# Altium integrated library con-molex.IntLib: 368 symbols (part 2 of 6)

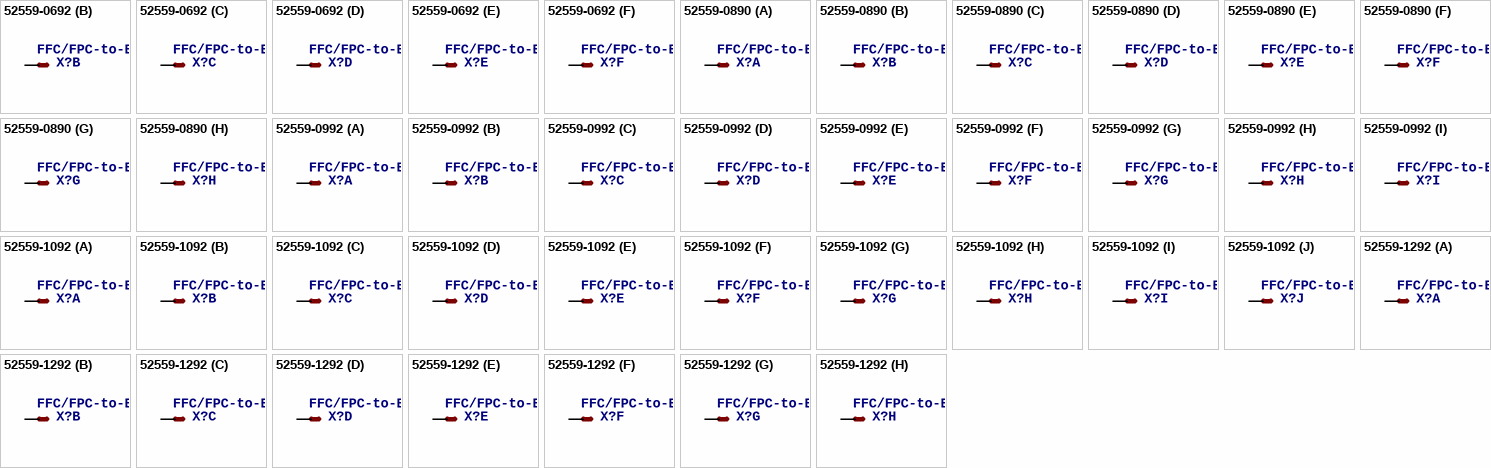
[diagram p23: symbols 52559-0692 to 52559-1292]

## 52559-0692
designator X?, comment FFC/FPC-to-Board  0.50mm (.020") SMT, Vertical, ZIF Receptacle   Source: http://www.molex.com/product/ffc/52559.html
MPN: 52559-0692; OC_FARNELL: unknown; OC_NEWARK: 92M6167
footprint 52559-0692
part A pins: 1 S
part B pins: 2 S
part C pins: 3 S
part D pins: 4 S
part E pins: 5 S
part F pins: 6 S

## 52559-0890
designator X?, comment FFC/FPC-to-Board  0.50mm (.020") SMT, Vertical, ZIF Receptacle   Source: http://www.molex.com/product/ffc/52559.html
OC_FARNELL: unknown; OC_NEWARK: unknown
footprint 52559-0890
part A pins: 1 S
part B pins: 2 S
part C pins: 3 S
part D pins: 4 S
part E pins: 5 S
part F pins: 6 S
part G pins: 7 S
part H pins: 8 S

## 52559-0992
designator X?, comment FFC/FPC-to-Board  0.50mm (.020") SMT, Vertical, ZIF Receptacle   Source: http://www.molex.com/product/ffc/52559.html
OC_FARNELL: unknown; OC_NEWARK: unknown
footprint 52559-0992
part A pins: 1 S
part B pins: 2 S
part C pins: 3 S
part D pins: 4 S
part E pins: 5 S
part F pins: 6 S
part G pins: 7 S
part H pins: 8 S
part I pins: 9 S

## 52559-1092
designator X?, comment FFC/FPC-to-Board  0.50mm (.020") SMT, Vertical, ZIF Receptacle   Source: http://www.molex.com/product/ffc/52559.html
MPN: 52559-1092; OC_FARNELL: unknown; OC_NEWARK: 92M6172
footprint 52559-1092
part A pins: 1 S
part B pins: 2 S
part C pins: 3 S
part D pins: 4 S
part E pins: 5 S
part F pins: 6 S
part G pins: 7 S
part H pins: 8 S
part I pins: 9 S
part J pins: 10 S

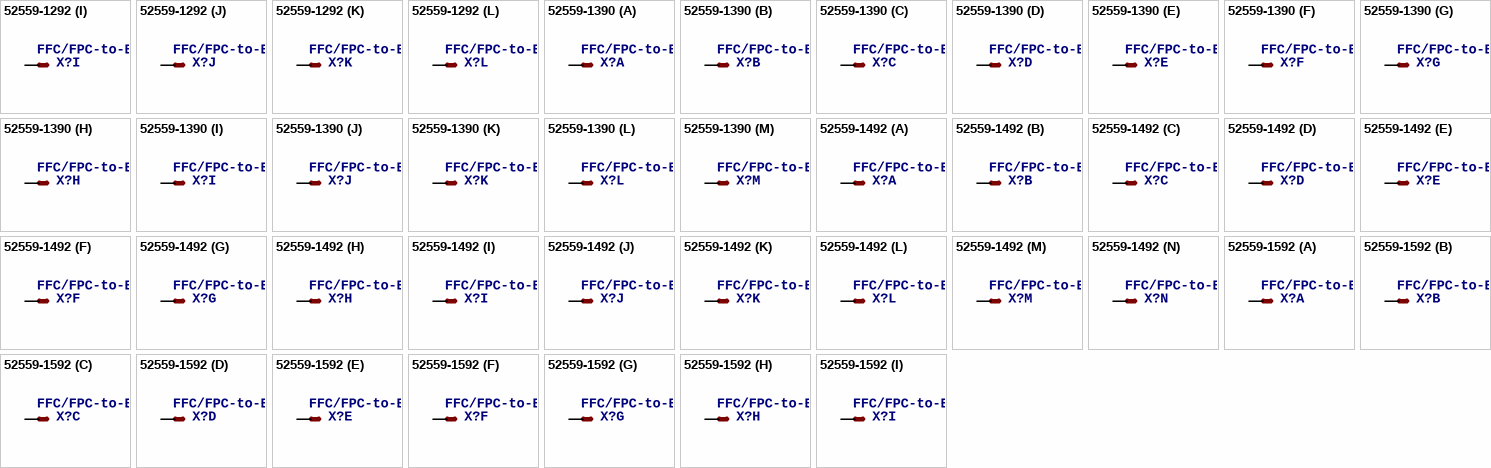
[diagram p24: symbols 52559-1292 to 52559-1592]

## 52559-1292
designator X?, comment FFC/FPC-to-Board  0.50mm (.020") SMT, Vertical, ZIF Receptacle   Source: http://www.molex.com/product/ffc/52559.html
MPN: 52559-1292; OC_FARNELL: unknown; OC_NEWARK: 91C4526
footprint 52559-1292
part A pins: 1 S
part B pins: 2 S
part C pins: 3 S
part D pins: 4 S
part E pins: 5 S
part F pins: 6 S
part G pins: 7 S
part H pins: 8 S
part I pins: 9 S
part J pins: 10 S
part K pins: 11 S
part L pins: 12 S

## 52559-1390
designator X?, comment FFC/FPC-to-Board  0.50mm (.020") SMT, Vertical, ZIF Receptacle   Source: http://www.molex.com/product/ffc/52559.html
MPN: 52559-1390; OC_FARNELL: unknown; OC_NEWARK: 92M6176
footprint 52559-1390
part A pins: 1 S
part B pins: 2 S
part C pins: 3 S
part D pins: 4 S
part E pins: 5 S
part F pins: 6 S
part G pins: 7 S
part H pins: 8 S
part I pins: 9 S
part J pins: 10 S
part K pins: 11 S
part L pins: 12 S
part M pins: 13 S

## 52559-1492
designator X?, comment FFC/FPC-to-Board  0.50mm (.020") SMT, Vertical, ZIF Receptacle   Source: http://www.molex.com/product/ffc/52559.html
MPN: 52559-1492; OC_FARNELL: unknown; OC_NEWARK: 92M6180
footprint 52559-1492
part A pins: 1 S
part B pins: 2 S
part C pins: 3 S
part D pins: 4 S
part E pins: 5 S
part F pins: 6 S
part G pins: 7 S
part H pins: 8 S
part I pins: 9 S
part J pins: 10 S
part K pins: 11 S
part L pins: 12 S
part M pins: 13 S
part N pins: 14 S

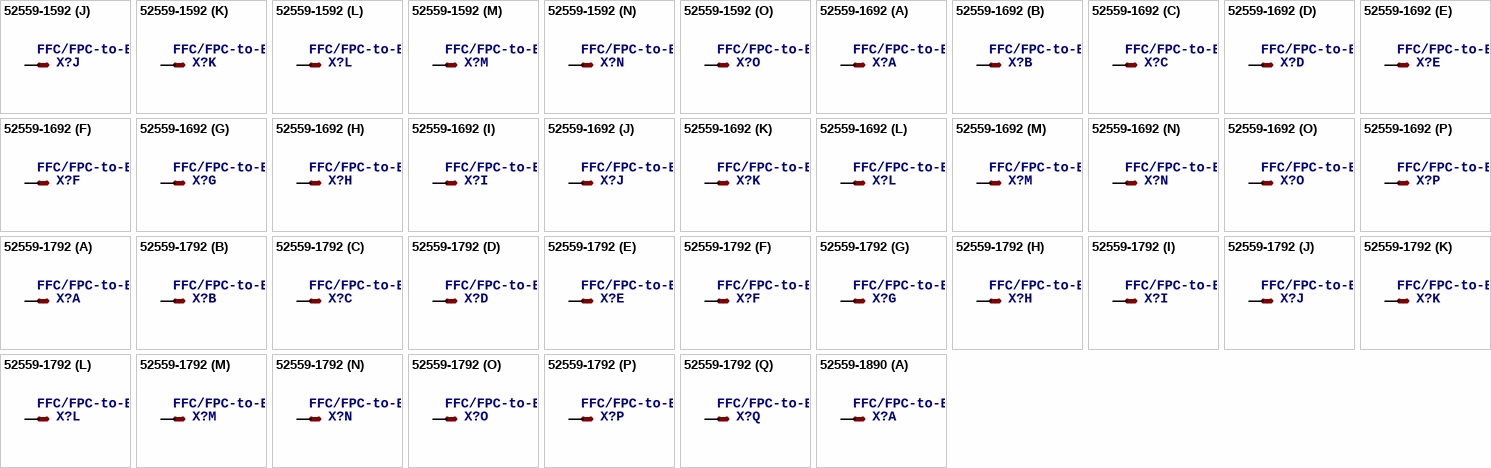
[diagram p25: symbols 52559-1592 to 52559-1890]

## 52559-1592
designator X?, comment FFC/FPC-to-Board  0.50mm (.020") SMT, Vertical, ZIF Receptacle   Source: http://www.molex.com/product/ffc/52559.html
OC_FARNELL: unknown; OC_NEWARK: unknown
footprint 52559-1592
part A pins: 1 S
part B pins: 2 S
part C pins: 3 S
part D pins: 4 S
part E pins: 5 S
part F pins: 6 S
part G pins: 7 S
part H pins: 8 S
part I pins: 9 S
part J pins: 10 S
part K pins: 11 S
part L pins: 12 S
part M pins: 13 S
part N pins: 14 S
part O pins: 15 S

## 52559-1692
designator X?, comment FFC/FPC-to-Board  0.50mm (.020") SMT, Vertical, ZIF Receptacle   Source: http://www.molex.com/product/ffc/52559.html
OC_FARNELL: unknown; OC_NEWARK: unknown
footprint 52559-1692
part A pins: 1 S
part B pins: 2 S
part C pins: 3 S
part D pins: 4 S
part E pins: 5 S
part F pins: 6 S
part G pins: 7 S
part H pins: 8 S
part I pins: 9 S
part J pins: 10 S
part K pins: 11 S
part L pins: 12 S
part M pins: 13 S
part N pins: 14 S
part O pins: 15 S
part P pins: 16 S

## 52559-1792
designator X?, comment FFC/FPC-to-Board  0.50mm (.020") SMT, Vertical, ZIF Receptacle   Source: http://www.molex.com/product/ffc/52559.html
OC_FARNELL: unknown; OC_NEWARK: unknown
footprint 52559-1792
part A pins: 1 S
part B pins: 2 S
part C pins: 3 S
part D pins: 4 S
part E pins: 5 S
part F pins: 6 S
part G pins: 7 S
part H pins: 8 S
part I pins: 9 S
part J pins: 10 S
part K pins: 11 S
part L pins: 12 S
part M pins: 13 S
part N pins: 14 S
part O pins: 15 S
part P pins: 16 S
part Q pins: 17 S

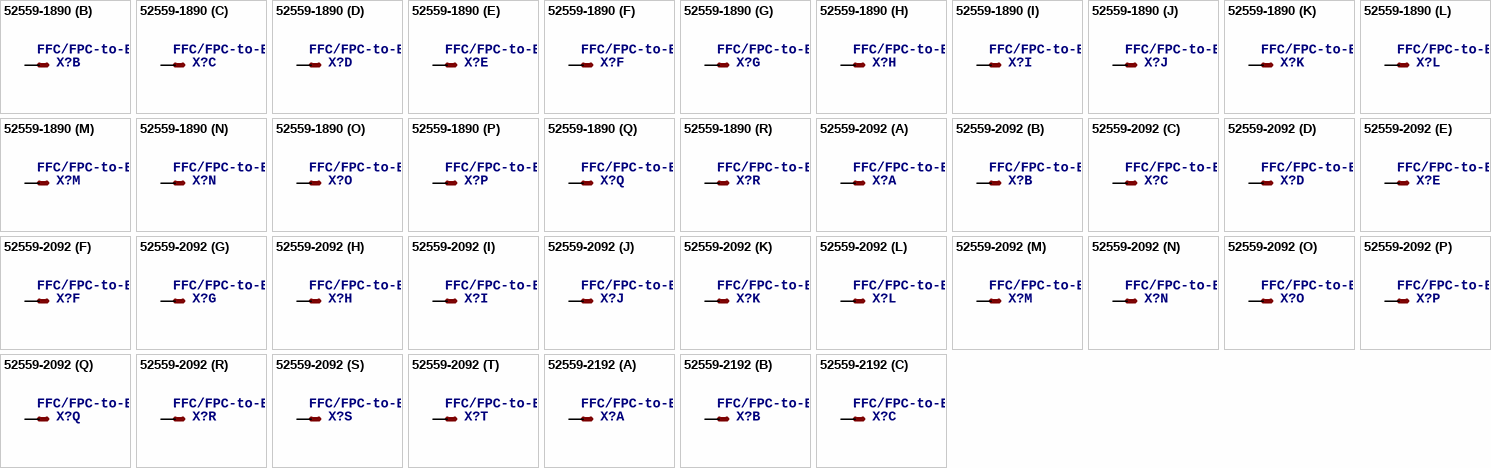
[diagram p26: symbols 52559-1890 to 52559-2192]

## 52559-1890
designator X?, comment FFC/FPC-to-Board  0.50mm (.020") SMT, Vertical, ZIF Receptacle   Source: http://www.molex.com/product/ffc/52559.html
MPN: 52559-1890; OC_FARNELL: unknown; OC_NEWARK: 92M6187
footprint 52559-1890
part A pins: 1 S
part B pins: 2 S
part C pins: 3 S
part D pins: 4 S
part E pins: 5 S
part F pins: 6 S
part G pins: 7 S
part H pins: 8 S
part I pins: 9 S
part J pins: 10 S
part K pins: 11 S
part L pins: 12 S
part M pins: 13 S
part N pins: 14 S
part O pins: 15 S
part P pins: 16 S
part Q pins: 17 S
part R pins: 18 S

## 52559-2092
designator X?, comment FFC/FPC-to-Board  0.50mm (.020") SMT, Vertical, ZIF Receptacle   Source: http://www.molex.com/product/ffc/52559.html
OC_FARNELL: unknown; OC_NEWARK: unknown
footprint 52559-2092
part A pins: 1 S
part B pins: 2 S
part C pins: 3 S
part D pins: 4 S
part E pins: 5 S
part F pins: 6 S
part G pins: 7 S
part H pins: 8 S
part I pins: 9 S
part J pins: 10 S
part K pins: 11 S
part L pins: 12 S
part M pins: 13 S
part N pins: 14 S
part O pins: 15 S
part P pins: 16 S
part Q pins: 17 S
part R pins: 18 S
part S pins: 19 S
part T pins: 20 S

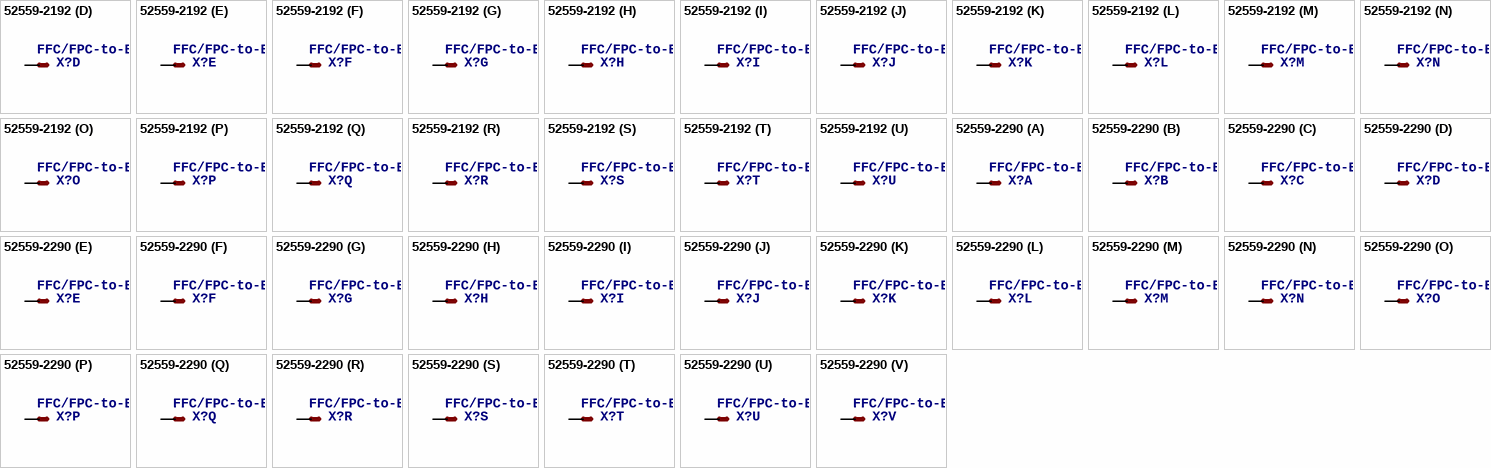
[diagram p27: symbols 52559-2192 to 52559-2290]

## 52559-2192
designator X?, comment FFC/FPC-to-Board  0.50mm (.020") SMT, Vertical, ZIF Receptacle   Source: http://www.molex.com/product/ffc/52559.html
OC_FARNELL: unknown; OC_NEWARK: unknown
footprint 52559-2192
part A pins: 1 S
part B pins: 2 S
part C pins: 3 S
part D pins: 4 S
part E pins: 5 S
part F pins: 6 S
part G pins: 7 S
part H pins: 8 S
part I pins: 9 S
part J pins: 10 S
part K pins: 11 S
part L pins: 12 S
part M pins: 13 S
part N pins: 14 S
part O pins: 15 S
part P pins: 16 S
part Q pins: 17 S
part R pins: 18 S
part S pins: 19 S
part T pins: 20 S
part U pins: 21 S

## 52559-2290
designator X?, comment FFC/FPC-to-Board  0.50mm (.020") SMT, Vertical, ZIF Receptacle   Source: http://www.molex.com/product/ffc/52559.html
MPN: 52559-2290; OC_FARNELL: unknown; OC_NEWARK: 92M6193
footprint 52559-2290
part A pins: 1 S
part B pins: 2 S
part C pins: 3 S
part D pins: 4 S
part E pins: 5 S
part F pins: 6 S
part G pins: 7 S
part H pins: 8 S
part I pins: 9 S
part J pins: 10 S
part K pins: 11 S
part L pins: 12 S
part M pins: 13 S
part N pins: 14 S
part O pins: 15 S
part P pins: 16 S
part Q pins: 17 S
part R pins: 18 S
part S pins: 19 S
part T pins: 20 S
part U pins: 21 S
part V pins: 22 S

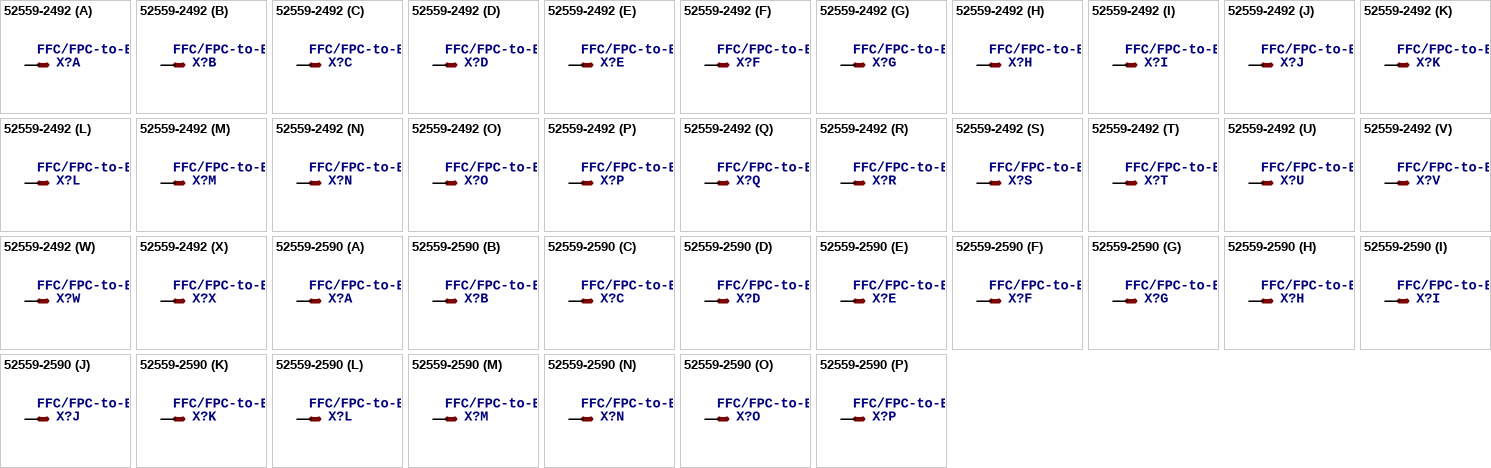
[diagram p28: symbols 52559-2492 to 52559-2590]

## 52559-2492
designator X?, comment FFC/FPC-to-Board  0.50mm (.020") SMT, Vertical, ZIF Receptacle   Source: http://www.molex.com/product/ffc/52559.html
MPN: 52559-2492; OC_FARNELL: unknown; OC_NEWARK: 25M4409
footprint 52559-2492
part A pins: 1 S
part B pins: 2 S
part C pins: 3 S
part D pins: 4 S
part E pins: 5 S
part F pins: 6 S
part G pins: 7 S
part H pins: 8 S
part I pins: 9 S
part J pins: 10 S
part K pins: 11 S
part L pins: 12 S
part M pins: 13 S
part N pins: 14 S
part O pins: 15 S
part P pins: 16 S
part Q pins: 17 S
part R pins: 18 S
part S pins: 19 S
part T pins: 20 S
part U pins: 21 S
part V pins: 22 S
part W pins: 23 S
part X pins: 24 S

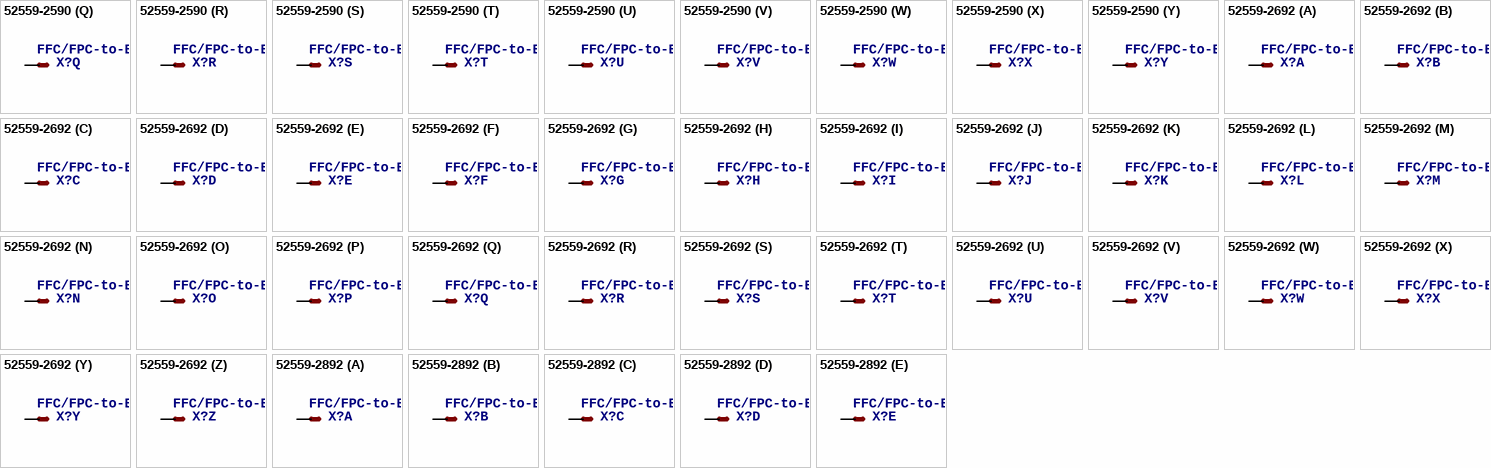
[diagram p29: symbols 52559-2590 to 52559-2892]

## 52559-2590
designator X?, comment FFC/FPC-to-Board  0.50mm (.020") SMT, Vertical, ZIF Receptacle   Source: http://www.molex.com/product/ffc/52559.html
OC_FARNELL: unknown; OC_NEWARK: unknown
footprint 52559-2590
part A pins: 1 S
part B pins: 2 S
part C pins: 3 S
part D pins: 4 S
part E pins: 5 S
part F pins: 6 S
part G pins: 7 S
part H pins: 8 S
part I pins: 9 S
part J pins: 10 S
part K pins: 11 S
part L pins: 12 S
part M pins: 13 S
part N pins: 14 S
part O pins: 15 S
part P pins: 16 S
part Q pins: 17 S
part R pins: 18 S
part S pins: 19 S
part T pins: 20 S
part U pins: 21 S
part V pins: 22 S
part W pins: 23 S
part X pins: 24 S
part Y pins: 25 S

## 52559-2692
designator X?, comment FFC/FPC-to-Board  0.50mm (.020") SMT, Vertical, ZIF Receptacle   Source: http://www.molex.com/product/ffc/52559.html
OC_FARNELL: unknown; OC_NEWARK: unknown
footprint 52559-2692
part A pins: 1 S
part B pins: 2 S
part C pins: 3 S
part D pins: 4 S
part E pins: 5 S
part F pins: 6 S
part G pins: 7 S
part H pins: 8 S
part I pins: 9 S
part J pins: 10 S
part K pins: 11 S
part L pins: 12 S
part M pins: 13 S
part N pins: 14 S
part O pins: 15 S
part P pins: 16 S
part Q pins: 17 S
part R pins: 18 S
part S pins: 19 S
part T pins: 20 S
part U pins: 21 S
part V pins: 22 S
part W pins: 23 S
part X pins: 24 S
part Y pins: 25 S
part Z pins: 26 S

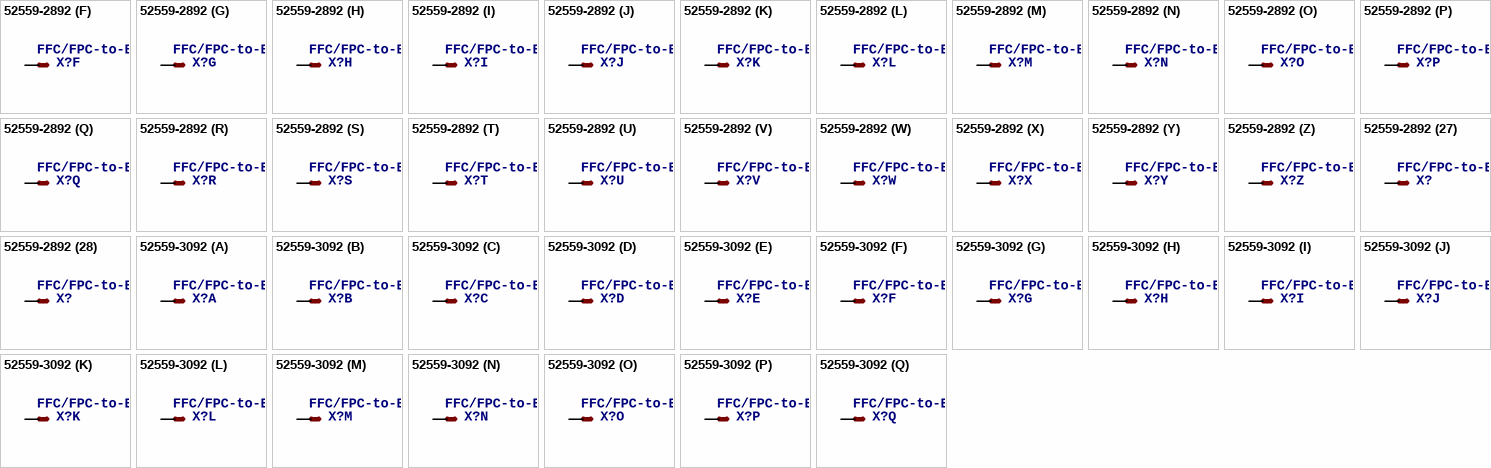
[diagram p30: symbols 52559-2892 to 52559-3092]

## 52559-2892
designator X?, comment FFC/FPC-to-Board  0.50mm (.020") SMT, Vertical, ZIF Receptacle   Source: http://www.molex.com/product/ffc/52559.html
OC_FARNELL: unknown; OC_NEWARK: unknown
footprint 52559-2892
part A pins: 1 S
part B pins: 2 S
part C pins: 3 S
part D pins: 4 S
part E pins: 5 S
part F pins: 6 S
part G pins: 7 S
part H pins: 8 S
part I pins: 9 S
part J pins: 10 S
part K pins: 11 S
part L pins: 12 S
part M pins: 13 S
part N pins: 14 S
part O pins: 15 S
part P pins: 16 S
part Q pins: 17 S
part R pins: 18 S
part S pins: 19 S
part T pins: 20 S
part U pins: 21 S
part V pins: 22 S
part W pins: 23 S
part X pins: 24 S
part Y pins: 25 S
part Z pins: 26 S
part 27 pins: 27 S
part 28 pins: 28 S

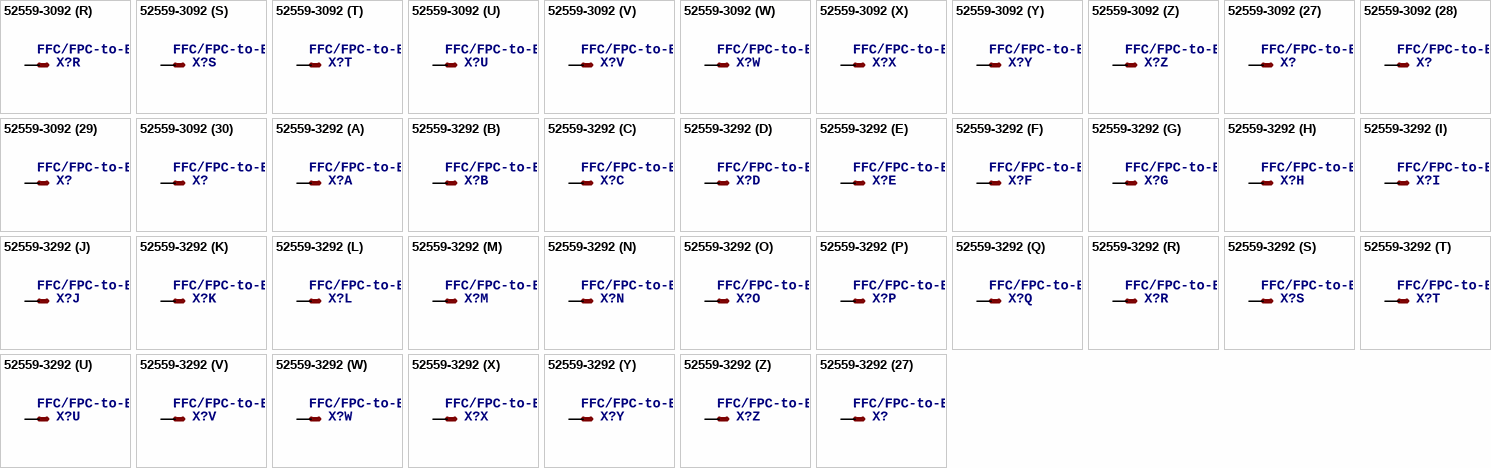
[diagram p31: symbols 52559-3092 to 52559-3292]

## 52559-3092
designator X?, comment FFC/FPC-to-Board  0.50mm (.020") SMT, Vertical, ZIF Receptacle   Source: http://www.molex.com/product/ffc/52559.html
MPN: 52559-3072; MF: MOLEX; OC_FARNELL: unknown; OC_NEWARK: 57J3632
footprint 52559-3092
part A pins: 1 S
part B pins: 2 S
part C pins: 3 S
part D pins: 4 S
part E pins: 5 S
part F pins: 6 S
part G pins: 7 S
part H pins: 8 S
part I pins: 9 S
part J pins: 10 S
part K pins: 11 S
part L pins: 12 S
part M pins: 13 S
part N pins: 14 S
part O pins: 15 S
part P pins: 16 S
part Q pins: 17 S
part R pins: 18 S
part S pins: 19 S
part T pins: 20 S
part U pins: 21 S
part V pins: 22 S
part W pins: 23 S
part X pins: 24 S
part Y pins: 25 S
part Z pins: 26 S
part 27 pins: 27 S
part 28 pins: 28 S
part 29 pins: 29 S
part 30 pins: 30 S

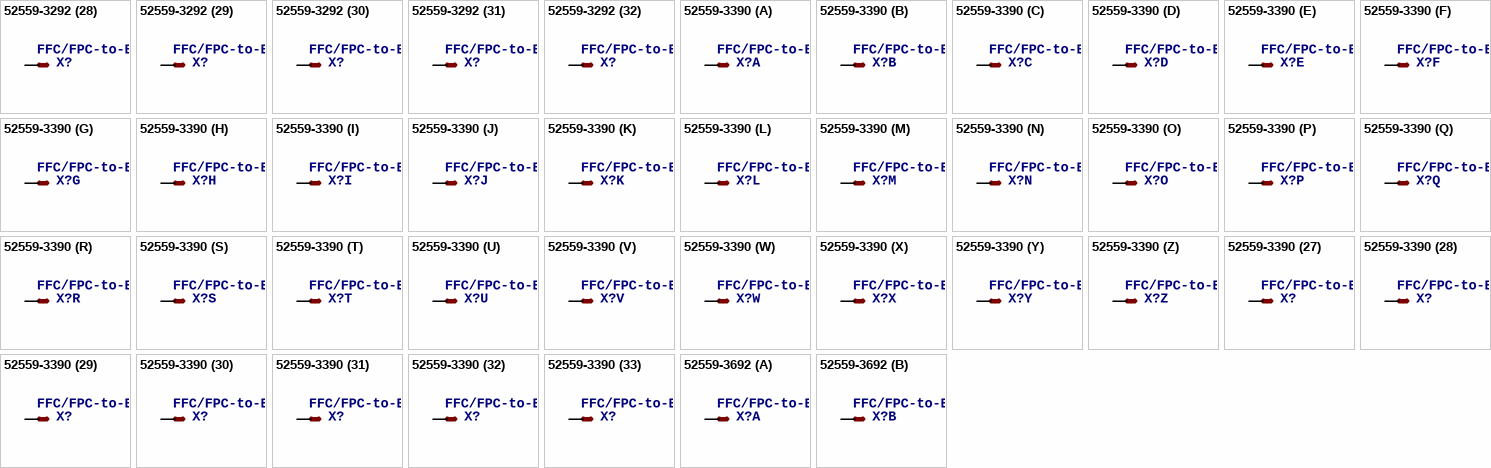
[diagram p32: symbols 52559-3292 to 52559-3692]

## 52559-3292
designator X?, comment FFC/FPC-to-Board  0.50mm (.020") SMT, Vertical, ZIF Receptacle   Source: http://www.molex.com/product/ffc/52559.html
OC_FARNELL: unknown; OC_NEWARK: unknown
footprint 52559-3292
part A pins: 1 S
part B pins: 2 S
part C pins: 3 S
part D pins: 4 S
part E pins: 5 S
part F pins: 6 S
part G pins: 7 S
part H pins: 8 S
part I pins: 9 S
part J pins: 10 S
part K pins: 11 S
part L pins: 12 S
part M pins: 13 S
part N pins: 14 S
part O pins: 15 S
part P pins: 16 S
part Q pins: 17 S
part R pins: 18 S
part S pins: 19 S
part T pins: 20 S
part U pins: 21 S
part V pins: 22 S
part W pins: 23 S
part X pins: 24 S
part Y pins: 25 S
part Z pins: 26 S
part 27 pins: 27 S
part 28 pins: 28 S
part 29 pins: 29 S
part 30 pins: 30 S
part 31 pins: 31 S
part 32 pins: 32 S

## 52559-3390
designator X?, comment FFC/FPC-to-Board  0.50mm (.020") SMT, Vertical, ZIF Receptacle   Source: http://www.molex.com/product/ffc/52559.html
OC_FARNELL: unknown; OC_NEWARK: unknown
footprint 52559-3390
part A pins: 1 S
part B pins: 2 S
part C pins: 3 S
part D pins: 4 S
part E pins: 5 S
part F pins: 6 S
part G pins: 7 S
part H pins: 8 S
part I pins: 9 S
part J pins: 10 S
part K pins: 11 S
part L pins: 12 S
part M pins: 13 S
part N pins: 14 S
part O pins: 15 S
part P pins: 16 S
part Q pins: 17 S
part R pins: 18 S
part S pins: 19 S
part T pins: 20 S
part U pins: 21 S
part V pins: 22 S
part W pins: 23 S
part X pins: 24 S
part Y pins: 25 S
part Z pins: 26 S
part 27 pins: 27 S
part 28 pins: 28 S
part 29 pins: 29 S
part 30 pins: 30 S
part 31 pins: 31 S
part 32 pins: 32 S
part 33 pins: 33 S

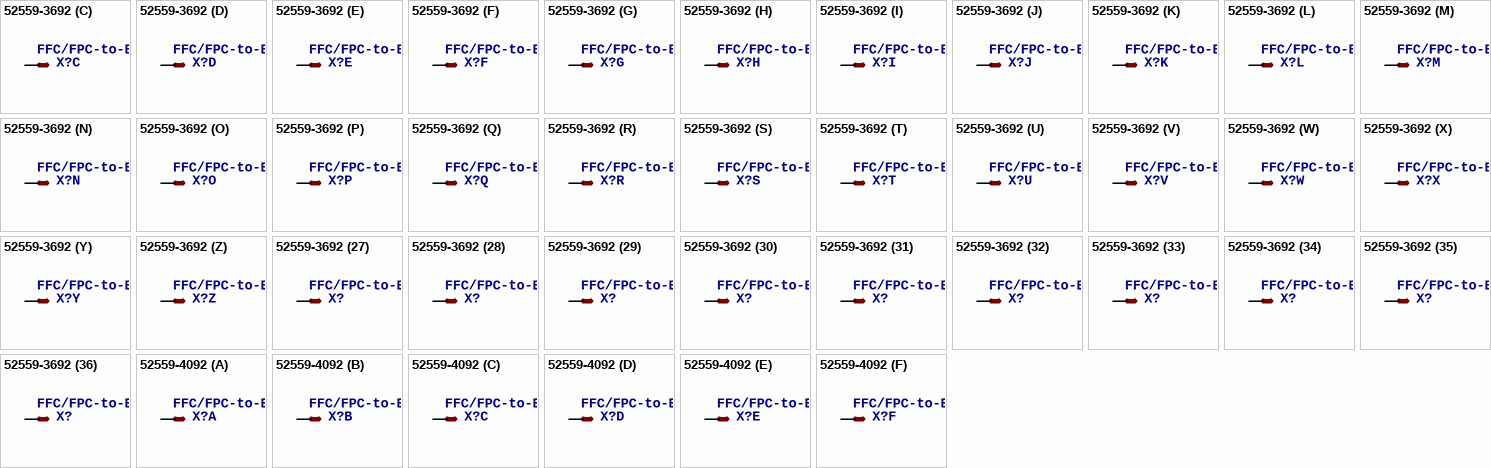
[diagram p33: symbols 52559-3692 to 52559-4092]

## 52559-3692
designator X?, comment FFC/FPC-to-Board  0.50mm (.020") SMT, Vertical, ZIF Receptacle   Source: http://www.molex.com/product/ffc/52559.html
OC_FARNELL: unknown; OC_NEWARK: unknown
footprint 52559-3692
part A pins: 1 S
part B pins: 2 S
part C pins: 3 S
part D pins: 4 S
part E pins: 5 S
part F pins: 6 S
part G pins: 7 S
part H pins: 8 S
part I pins: 9 S
part J pins: 10 S
part K pins: 11 S
part L pins: 12 S
part M pins: 13 S
part N pins: 14 S
part O pins: 15 S
part P pins: 16 S
part Q pins: 17 S
part R pins: 18 S
part S pins: 19 S
part T pins: 20 S
part U pins: 21 S
part V pins: 22 S
part W pins: 23 S
part X pins: 24 S
part Y pins: 25 S
part Z pins: 26 S
part 27 pins: 27 S
part 28 pins: 28 S
part 29 pins: 29 S
part 30 pins: 30 S
part 31 pins: 31 S
part 32 pins: 32 S
part 33 pins: 33 S
part 34 pins: 34 S
part 35 pins: 35 S
part 36 pins: 36 S

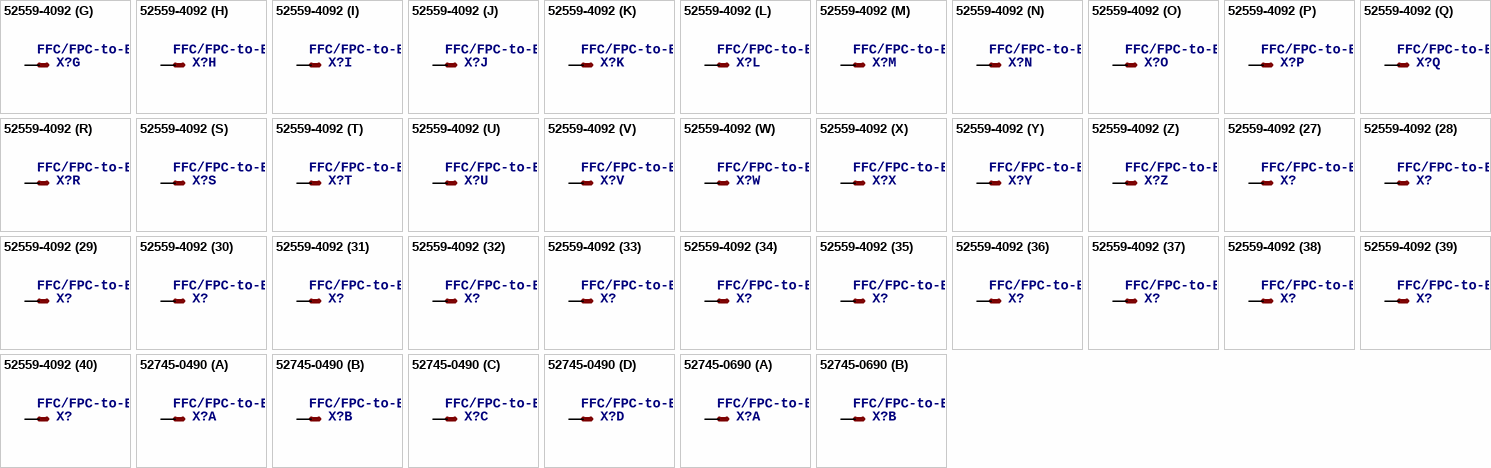
[diagram p34: symbols 52559-4092 to 52745-0690]

## 52559-4092
designator X?, comment FFC/FPC-to-Board  0.50mm (.020") SMT, Vertical, ZIF Receptacle   Source: http://www.molex.com/product/ffc/52559.html
MPN: 52559-4092; OC_FARNELL: unknown; OC_NEWARK: 92M6213
footprint 52559-4092
part A pins: 1 S
part B pins: 2 S
part C pins: 3 S
part D pins: 4 S
part E pins: 5 S
part F pins: 6 S
part G pins: 7 S
part H pins: 8 S
part I pins: 9 S
part J pins: 10 S
part K pins: 11 S
part L pins: 12 S
part M pins: 13 S
part N pins: 14 S
part O pins: 15 S
part P pins: 16 S
part Q pins: 17 S
part R pins: 18 S
part S pins: 19 S
part T pins: 20 S
part U pins: 21 S
part V pins: 22 S
part W pins: 23 S
part X pins: 24 S
part Y pins: 25 S
part Z pins: 26 S
part 27 pins: 27 S
part 28 pins: 28 S
part 29 pins: 29 S
part 30 pins: 30 S
part 31 pins: 31 S
part 32 pins: 32 S
part 33 pins: 33 S
part 34 pins: 34 S
part 35 pins: 35 S
part 36 pins: 36 S
part 37 pins: 37 S
part 38 pins: 38 S
part 39 pins: 39 S
part 40 pins: 40 S

## 52745-0490
designator X?, comment FFC/FPC-to-Board  0.50mm (.020") SMT Top Contact   Right Angle, ZIF, Style Receptacle 52745 / 52435 Source: http://www.molex.com/product/ffc/52745.html
MPN: 52745-0490; OC_FARNELL: unknown; OC_NEWARK: 61H4699
footprint 52745-0490
part A pins: 1 S
part B pins: 2 S
part C pins: 3 S
part D pins: 4 S

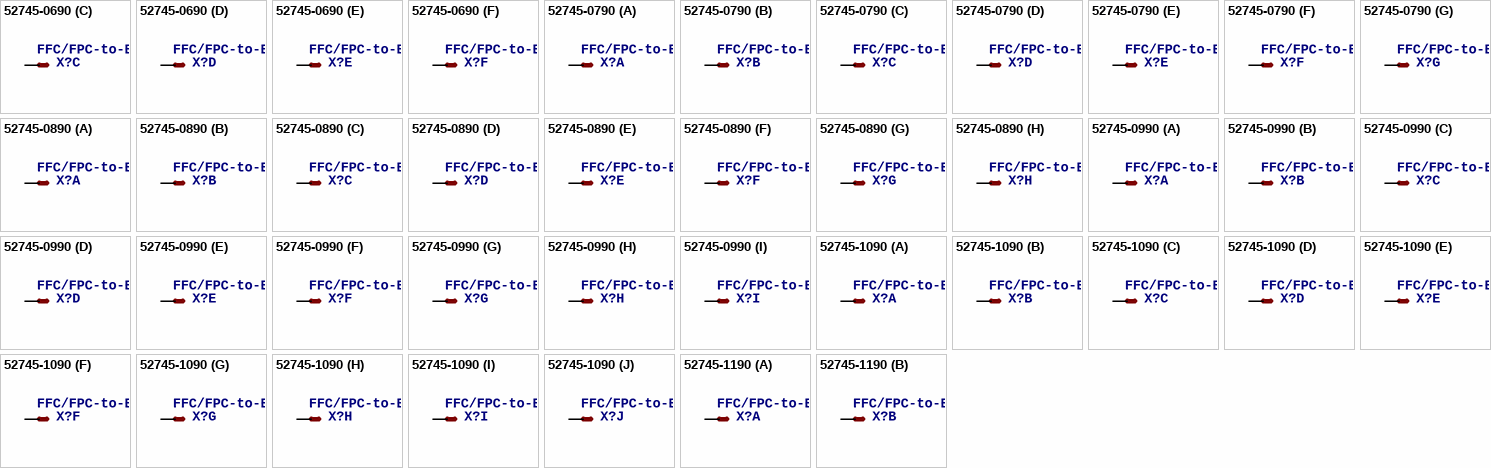
[diagram p35: symbols 52745-0690 to 52745-1190]

## 52745-0690
designator X?, comment FFC/FPC-to-Board  0.50mm (.020") SMT Top Contact   Right Angle, ZIF, Style Receptacle 52745 / 52435 Source: http://www.molex.com/product/ffc/52745.html
MPN: 52745-0690; OC_FARNELL: unknown; OC_NEWARK: 92M6374
footprint 52745-0690
part A pins: 1 S
part B pins: 2 S
part C pins: 3 S
part D pins: 4 S
part E pins: 5 S
part F pins: 6 S

## 52745-0790
designator X?, comment FFC/FPC-to-Board  0.50mm (.020") SMT Top Contact   Right Angle, ZIF, Style Receptacle 52745 / 52435 Source: http://www.molex.com/product/ffc/52745.html
OC_FARNELL: unknown; OC_NEWARK: unknown
footprint 52745-0790
part A pins: 1 S
part B pins: 2 S
part C pins: 3 S
part D pins: 4 S
part E pins: 5 S
part F pins: 6 S
part G pins: 7 S

## 52745-0890
designator X?, comment FFC/FPC-to-Board  0.50mm (.020") SMT Top Contact   Right Angle, ZIF, Style Receptacle 52745 / 52435 Source: http://www.molex.com/product/ffc/52745.html
MPN: 52745-0890; OC_FARNELL: unknown; OC_NEWARK: 92M6377
footprint 52745-0890
part A pins: 1 S
part B pins: 2 S
part C pins: 3 S
part D pins: 4 S
part E pins: 5 S
part F pins: 6 S
part G pins: 7 S
part H pins: 8 S

## 52745-0990
designator X?, comment FFC/FPC-to-Board  0.50mm (.020") SMT Top Contact   Right Angle, ZIF, Style Receptacle 52745 / 52435 Source: http://www.molex.com/product/ffc/52745.html
OC_FARNELL: unknown; OC_NEWARK: unknown
footprint 52745-0990
part A pins: 1 S
part B pins: 2 S
part C pins: 3 S
part D pins: 4 S
part E pins: 5 S
part F pins: 6 S
part G pins: 7 S
part H pins: 8 S
part I pins: 9 S

## 52745-1090
designator X?, comment FFC/FPC-to-Board  0.50mm (.020") SMT Top Contact   Right Angle, ZIF, Style Receptacle 52745 / 52435 Source: http://www.molex.com/product/ffc/52745.html
MPN: 52745-1090; OC_FARNELL: unknown; OC_NEWARK: 92M6380
footprint 52745-1090
part A pins: 1 S
part B pins: 2 S
part C pins: 3 S
part D pins: 4 S
part E pins: 5 S
part F pins: 6 S
part G pins: 7 S
part H pins: 8 S
part I pins: 9 S
part J pins: 10 S

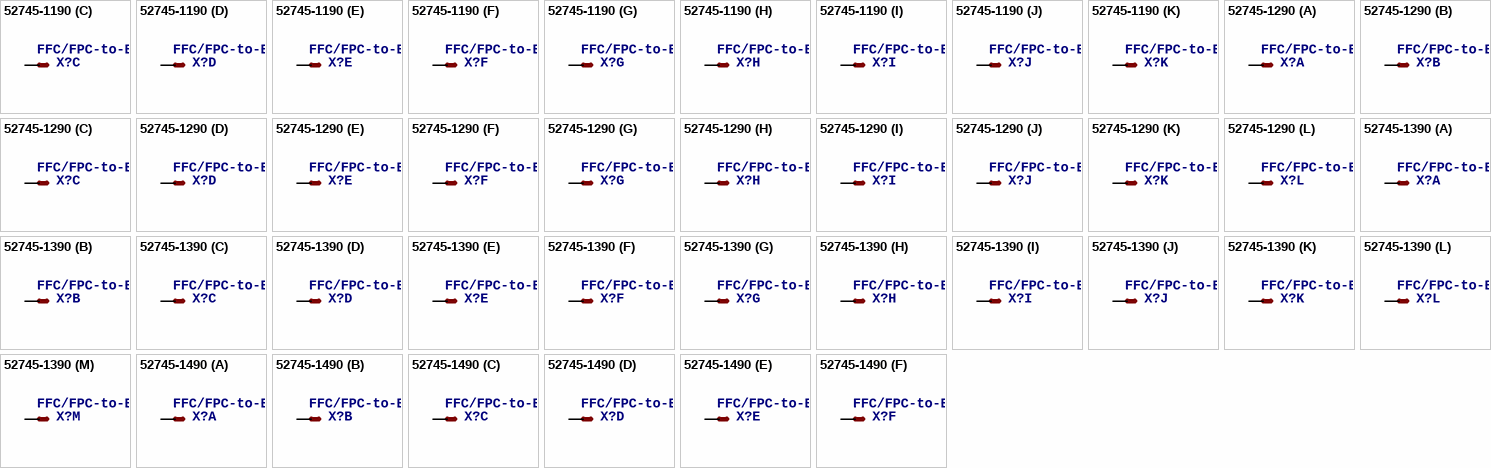
[diagram p36: symbols 52745-1190 to 52745-1490]

## 52745-1190
designator X?, comment FFC/FPC-to-Board  0.50mm (.020") SMT Top Contact   Right Angle, ZIF, Style Receptacle 52745 / 52435 Source: http://www.molex.com/product/ffc/52745.html
OC_FARNELL: unknown; OC_NEWARK: unknown
footprint 52745-1190
part A pins: 1 S
part B pins: 2 S
part C pins: 3 S
part D pins: 4 S
part E pins: 5 S
part F pins: 6 S
part G pins: 7 S
part H pins: 8 S
part I pins: 9 S
part J pins: 10 S
part K pins: 11 S

## 52745-1290
designator X?, comment FFC/FPC-to-Board  0.50mm (.020") SMT Top Contact   Right Angle, ZIF, Style Receptacle 52745 / 52435 Source: http://www.molex.com/product/ffc/52745.html
MPN: 52745-1290; OC_FARNELL: unknown; OC_NEWARK: 92M6383
footprint 52745-1290
part A pins: 1 S
part B pins: 2 S
part C pins: 3 S
part D pins: 4 S
part E pins: 5 S
part F pins: 6 S
part G pins: 7 S
part H pins: 8 S
part I pins: 9 S
part J pins: 10 S
part K pins: 11 S
part L pins: 12 S

## 52745-1390
designator X?, comment FFC/FPC-to-Board  0.50mm (.020") SMT Top Contact   Right Angle, ZIF, Style Receptacle 52745 / 52435 Source: http://www.molex.com/product/ffc/52745.html
OC_FARNELL: unknown; OC_NEWARK: unknown
footprint 52745-1390
part A pins: 1 S
part B pins: 2 S
part C pins: 3 S
part D pins: 4 S
part E pins: 5 S
part F pins: 6 S
part G pins: 7 S
part H pins: 8 S
part I pins: 9 S
part J pins: 10 S
part K pins: 11 S
part L pins: 12 S
part M pins: 13 S

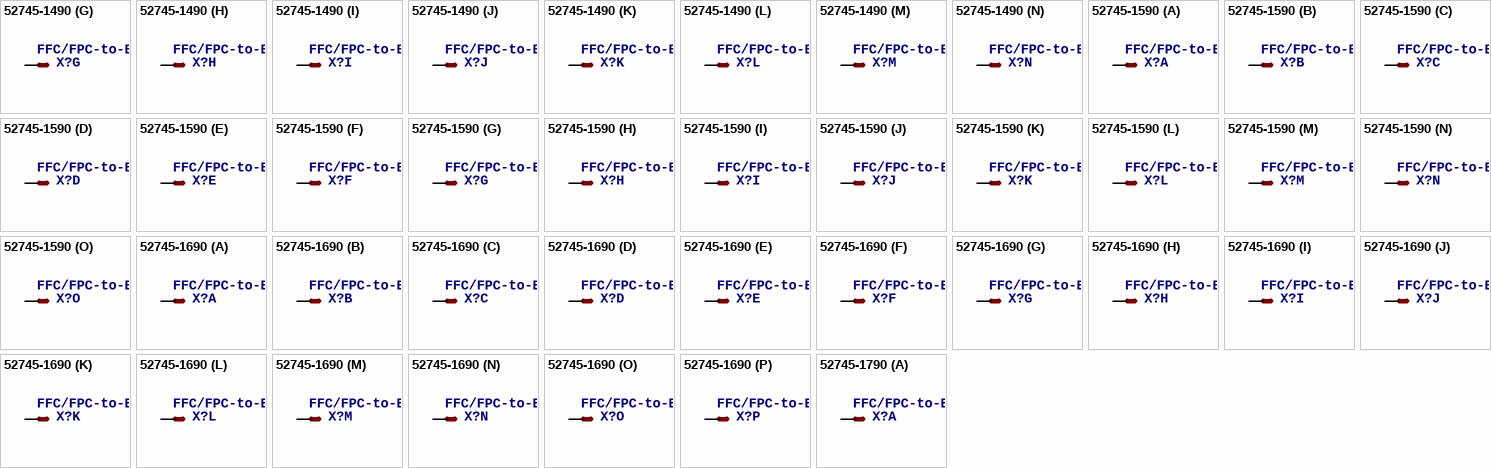
[diagram p37: symbols 52745-1490 to 52745-1790]

## 52745-1490
designator X?, comment FFC/FPC-to-Board  0.50mm (.020") SMT Top Contact   Right Angle, ZIF, Style Receptacle 52745 / 52435 Source: http://www.molex.com/product/ffc/52745.html
MPN: 52745-1490; MF: WALDOM/MOLEX; OC_FARNELL: unknown; OC_NEWARK: 38C9888
footprint 52745-1490
part A pins: 1 S
part B pins: 2 S
part C pins: 3 S
part D pins: 4 S
part E pins: 5 S
part F pins: 6 S
part G pins: 7 S
part H pins: 8 S
part I pins: 9 S
part J pins: 10 S
part K pins: 11 S
part L pins: 12 S
part M pins: 13 S
part N pins: 14 S

## 52745-1590
designator X?, comment FFC/FPC-to-Board  0.50mm (.020") SMT Top Contact   Right Angle, ZIF, Style Receptacle 52745 / 52435 Source: http://www.molex.com/product/ffc/52745.html
MPN: 52745-1590; OC_FARNELL: unknown; OC_NEWARK: 92M6390
footprint 52745-1590
part A pins: 1 S
part B pins: 2 S
part C pins: 3 S
part D pins: 4 S
part E pins: 5 S
part F pins: 6 S
part G pins: 7 S
part H pins: 8 S
part I pins: 9 S
part J pins: 10 S
part K pins: 11 S
part L pins: 12 S
part M pins: 13 S
part N pins: 14 S
part O pins: 15 S

## 52745-1690
designator X?, comment FFC/FPC-to-Board  0.50mm (.020") SMT Top Contact   Right Angle, ZIF, Style Receptacle 52745 / 52435 Source: http://www.molex.com/product/ffc/52745.html
MPN: 52745-1690; MF: MOLEX; OC_FARNELL: unknown; OC_NEWARK: 57H4224
footprint 52745-1690
part A pins: 1 S
part B pins: 2 S
part C pins: 3 S
part D pins: 4 S
part E pins: 5 S
part F pins: 6 S
part G pins: 7 S
part H pins: 8 S
part I pins: 9 S
part J pins: 10 S
part K pins: 11 S
part L pins: 12 S
part M pins: 13 S
part N pins: 14 S
part O pins: 15 S
part P pins: 16 S

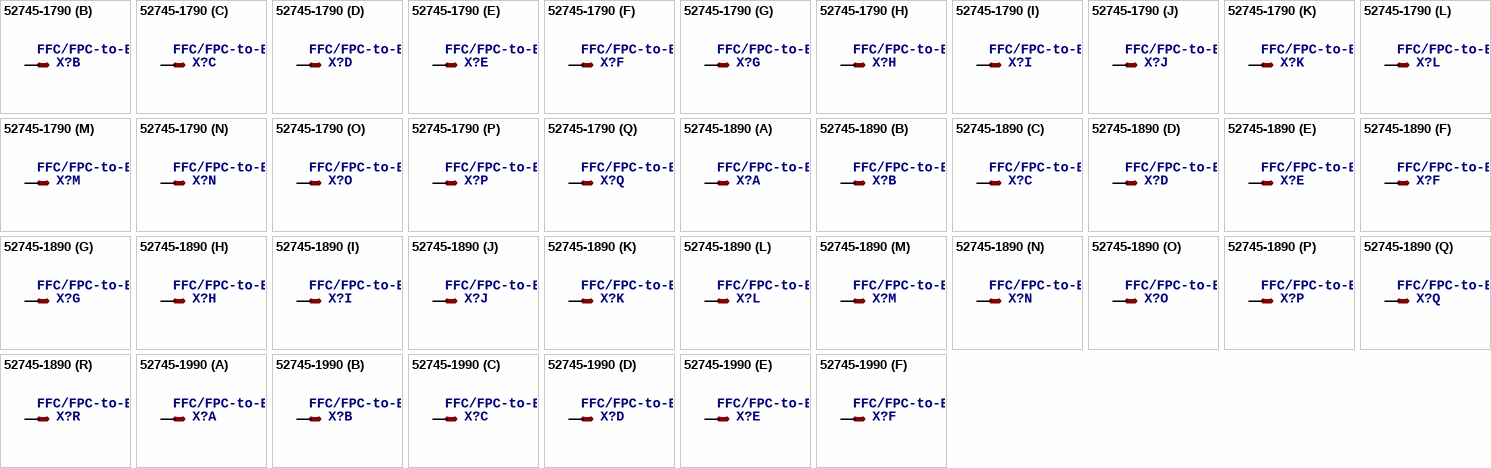
[diagram p38: symbols 52745-1790 to 52745-1990]

## 52745-1790
designator X?, comment FFC/FPC-to-Board  0.50mm (.020") SMT Top Contact   Right Angle, ZIF, Style Receptacle 52745 / 52435 Source: http://www.molex.com/product/ffc/52745.html
MPN: 52745-1790; OC_FARNELL: unknown; OC_NEWARK: 92M6393
footprint 52745-1790
part A pins: 1 S
part B pins: 2 S
part C pins: 3 S
part D pins: 4 S
part E pins: 5 S
part F pins: 6 S
part G pins: 7 S
part H pins: 8 S
part I pins: 9 S
part J pins: 10 S
part K pins: 11 S
part L pins: 12 S
part M pins: 13 S
part N pins: 14 S
part O pins: 15 S
part P pins: 16 S
part Q pins: 17 S

## 52745-1890
designator X?, comment FFC/FPC-to-Board  0.50mm (.020") SMT Top Contact   Right Angle, ZIF, Style Receptacle 52745 / 52435 Source: http://www.molex.com/product/ffc/52745.html
MPN: 52745-1890; OC_FARNELL: unknown; OC_NEWARK: 66F4273
footprint 52745-1890
part A pins: 1 S
part B pins: 2 S
part C pins: 3 S
part D pins: 4 S
part E pins: 5 S
part F pins: 6 S
part G pins: 7 S
part H pins: 8 S
part I pins: 9 S
part J pins: 10 S
part K pins: 11 S
part L pins: 12 S
part M pins: 13 S
part N pins: 14 S
part O pins: 15 S
part P pins: 16 S
part Q pins: 17 S
part R pins: 18 S

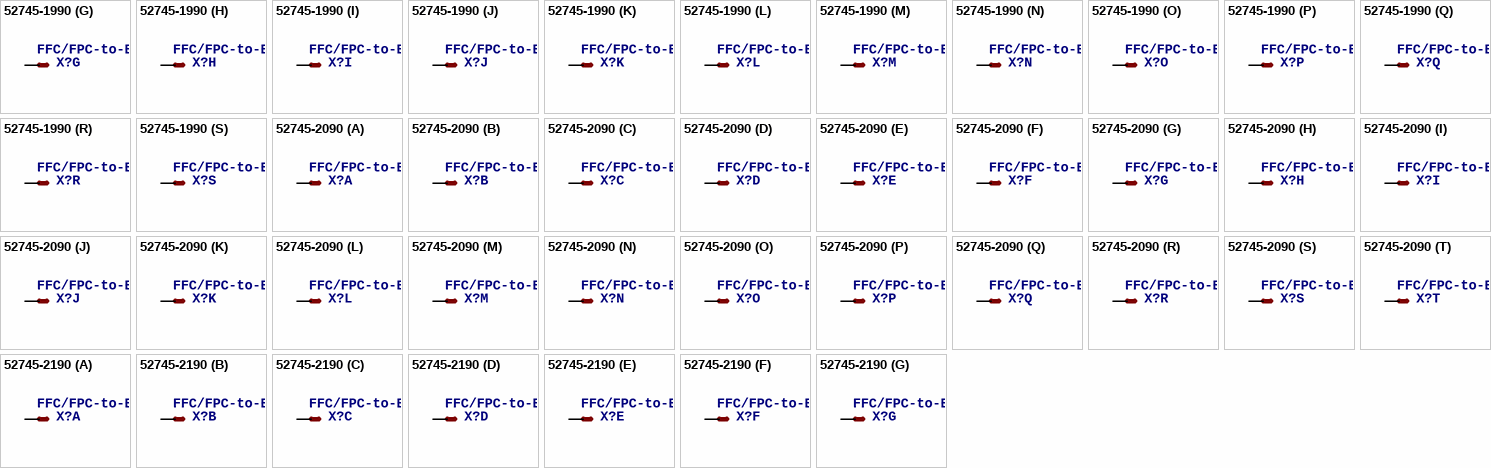
[diagram p39: symbols 52745-1990 to 52745-2190]

## 52745-1990
designator X?, comment FFC/FPC-to-Board  0.50mm (.020") SMT Top Contact   Right Angle, ZIF, Style Receptacle 52745 / 52435 Source: http://www.molex.com/product/ffc/52745.html
MPN: 52745-1990; OC_FARNELL: unknown; OC_NEWARK: 92M6397
footprint 52745-1990
part A pins: 1 S
part B pins: 2 S
part C pins: 3 S
part D pins: 4 S
part E pins: 5 S
part F pins: 6 S
part G pins: 7 S
part H pins: 8 S
part I pins: 9 S
part J pins: 10 S
part K pins: 11 S
part L pins: 12 S
part M pins: 13 S
part N pins: 14 S
part O pins: 15 S
part P pins: 16 S
part Q pins: 17 S
part R pins: 18 S
part S pins: 19 S

## 52745-2090
designator X?, comment FFC/FPC-to-Board  0.50mm (.020") SMT Top Contact   Right Angle, ZIF, Style Receptacle 52745 / 52435 Source: http://www.molex.com/product/ffc/52745.html
MPN: 52745-2090; MF: WALDOM/MOLEX; OC_FARNELL: unknown; OC_NEWARK: 38C9891
footprint 52745-2090
part A pins: 1 S
part B pins: 2 S
part C pins: 3 S
part D pins: 4 S
part E pins: 5 S
part F pins: 6 S
part G pins: 7 S
part H pins: 8 S
part I pins: 9 S
part J pins: 10 S
part K pins: 11 S
part L pins: 12 S
part M pins: 13 S
part N pins: 14 S
part O pins: 15 S
part P pins: 16 S
part Q pins: 17 S
part R pins: 18 S
part S pins: 19 S
part T pins: 20 S

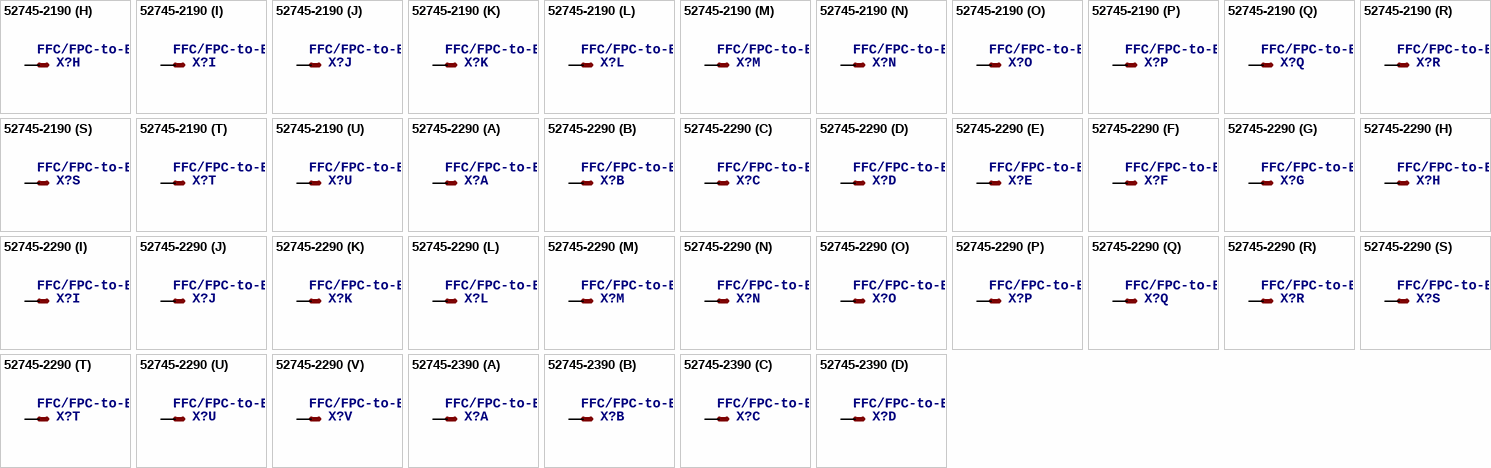
[diagram p40: symbols 52745-2190 to 52745-2390]

## 52745-2190
designator X?, comment FFC/FPC-to-Board  0.50mm (.020") SMT Top Contact   Right Angle, ZIF, Style Receptacle 52745 / 52435 Source: http://www.molex.com/product/ffc/52745.html
OC_FARNELL: unknown; OC_NEWARK: unknown
footprint 52745-2190
part A pins: 1 S
part B pins: 2 S
part C pins: 3 S
part D pins: 4 S
part E pins: 5 S
part F pins: 6 S
part G pins: 7 S
part H pins: 8 S
part I pins: 9 S
part J pins: 10 S
part K pins: 11 S
part L pins: 12 S
part M pins: 13 S
part N pins: 14 S
part O pins: 15 S
part P pins: 16 S
part Q pins: 17 S
part R pins: 18 S
part S pins: 19 S
part T pins: 20 S
part U pins: 21 S

## 52745-2290
designator X?, comment FFC/FPC-to-Board  0.50mm (.020") SMT Top Contact   Right Angle, ZIF, Style Receptacle 52745 / 52435 Source: http://www.molex.com/product/ffc/52745.html
OC_FARNELL: unknown; OC_NEWARK: unknown
footprint 52745-2290
part A pins: 1 S
part B pins: 2 S
part C pins: 3 S
part D pins: 4 S
part E pins: 5 S
part F pins: 6 S
part G pins: 7 S
part H pins: 8 S
part I pins: 9 S
part J pins: 10 S
part K pins: 11 S
part L pins: 12 S
part M pins: 13 S
part N pins: 14 S
part O pins: 15 S
part P pins: 16 S
part Q pins: 17 S
part R pins: 18 S
part S pins: 19 S
part T pins: 20 S
part U pins: 21 S
part V pins: 22 S

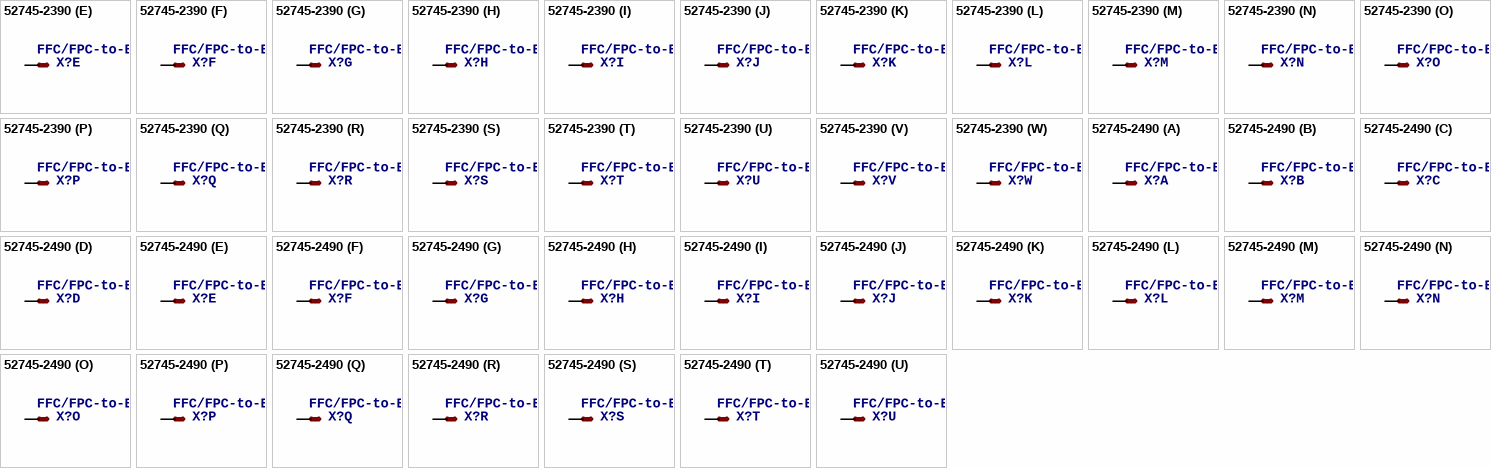
[diagram p41: symbols 52745-2390 to 52745-2490]

## 52745-2390
designator X?, comment FFC/FPC-to-Board  0.50mm (.020") SMT Top Contact   Right Angle, ZIF, Style Receptacle 52745 / 52435 Source: http://www.molex.com/product/ffc/52745.html
OC_FARNELL: unknown; OC_NEWARK: unknown
footprint 52745-2390
part A pins: 1 S
part B pins: 2 S
part C pins: 3 S
part D pins: 4 S
part E pins: 5 S
part F pins: 6 S
part G pins: 7 S
part H pins: 8 S
part I pins: 9 S
part J pins: 10 S
part K pins: 11 S
part L pins: 12 S
part M pins: 13 S
part N pins: 14 S
part O pins: 15 S
part P pins: 16 S
part Q pins: 17 S
part R pins: 18 S
part S pins: 19 S
part T pins: 20 S
part U pins: 21 S
part V pins: 22 S
part W pins: 23 S

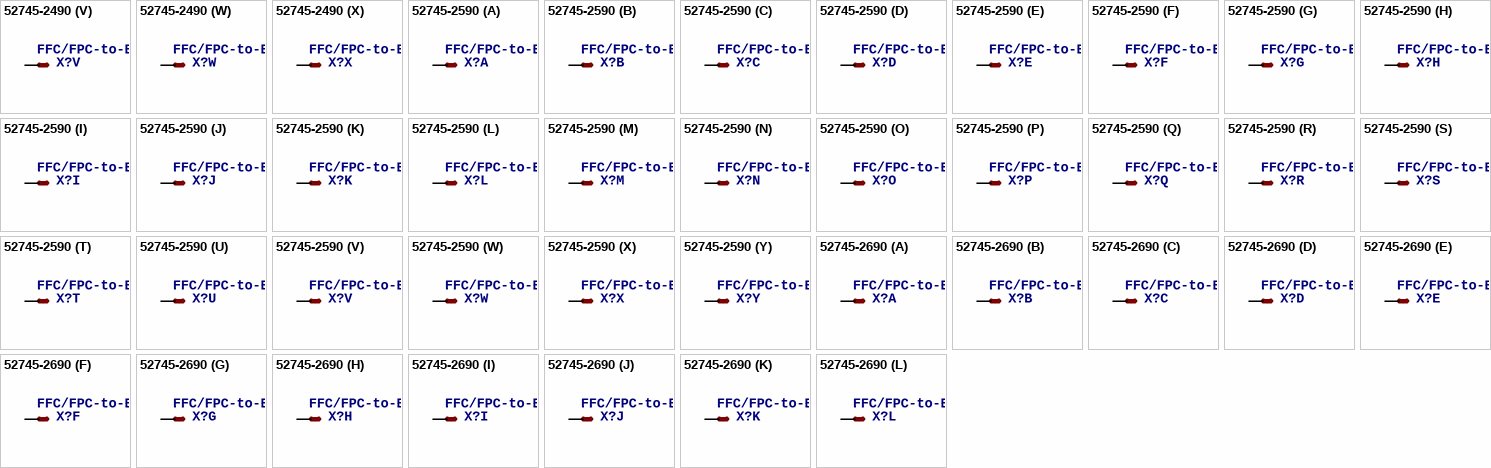
[diagram p42: symbols 52745-2490 to 52745-2690]

## 52745-2490
designator X?, comment FFC/FPC-to-Board  0.50mm (.020") SMT Top Contact   Right Angle, ZIF, Style Receptacle 52745 / 52435 Source: http://www.molex.com/product/ffc/52745.html
OC_FARNELL: unknown; OC_NEWARK: unknown
footprint 52745-2490
part A pins: 1 S
part B pins: 2 S
part C pins: 3 S
part D pins: 4 S
part E pins: 5 S
part F pins: 6 S
part G pins: 7 S
part H pins: 8 S
part I pins: 9 S
part J pins: 10 S
part K pins: 11 S
part L pins: 12 S
part M pins: 13 S
part N pins: 14 S
part O pins: 15 S
part P pins: 16 S
part Q pins: 17 S
part R pins: 18 S
part S pins: 19 S
part T pins: 20 S
part U pins: 21 S
part V pins: 22 S
part W pins: 23 S
part X pins: 24 S

## 52745-2590
designator X?, comment FFC/FPC-to-Board  0.50mm (.020") SMT Top Contact   Right Angle, ZIF, Style Receptacle 52745 / 52435 Source: http://www.molex.com/product/ffc/52745.html
OC_FARNELL: unknown; OC_NEWARK: unknown
footprint 52745-2590
part A pins: 1 S
part B pins: 2 S
part C pins: 3 S
part D pins: 4 S
part E pins: 5 S
part F pins: 6 S
part G pins: 7 S
part H pins: 8 S
part I pins: 9 S
part J pins: 10 S
part K pins: 11 S
part L pins: 12 S
part M pins: 13 S
part N pins: 14 S
part O pins: 15 S
part P pins: 16 S
part Q pins: 17 S
part R pins: 18 S
part S pins: 19 S
part T pins: 20 S
part U pins: 21 S
part V pins: 22 S
part W pins: 23 S
part X pins: 24 S
part Y pins: 25 S

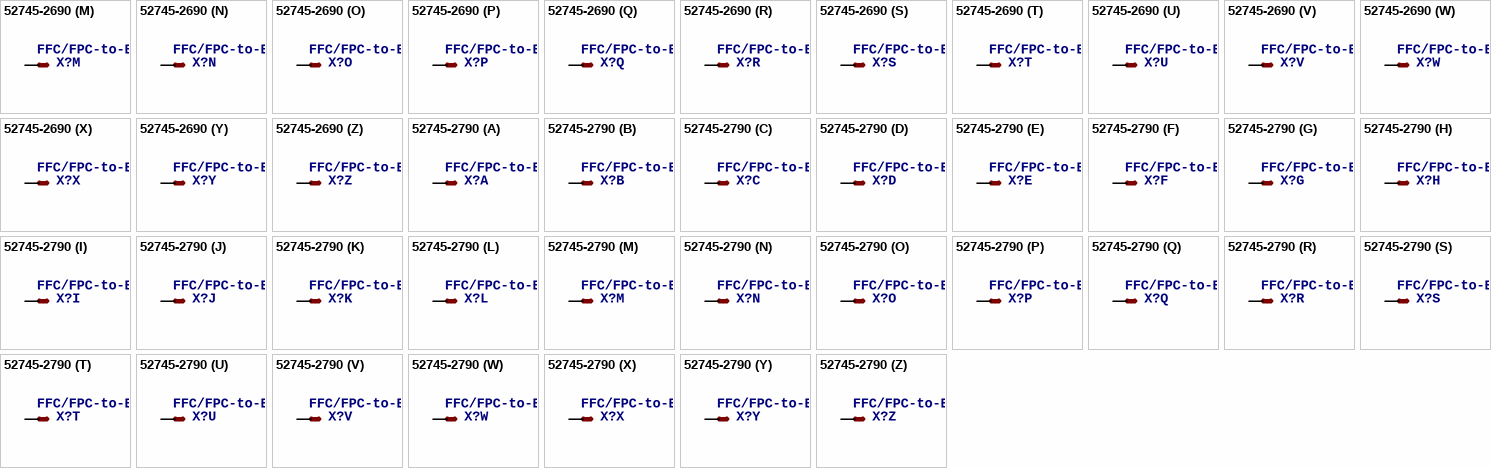
[diagram p43: symbols 52745-2690 to 52745-2790]

## 52745-2690
designator X?, comment FFC/FPC-to-Board  0.50mm (.020") SMT Top Contact   Right Angle, ZIF, Style Receptacle 52745 / 52435 Source: http://www.molex.com/product/ffc/52745.html
OC_FARNELL: unknown; OC_NEWARK: unknown
footprint 52745-2690
part A pins: 1 S
part B pins: 2 S
part C pins: 3 S
part D pins: 4 S
part E pins: 5 S
part F pins: 6 S
part G pins: 7 S
part H pins: 8 S
part I pins: 9 S
part J pins: 10 S
part K pins: 11 S
part L pins: 12 S
part M pins: 13 S
part N pins: 14 S
part O pins: 15 S
part P pins: 16 S
part Q pins: 17 S
part R pins: 18 S
part S pins: 19 S
part T pins: 20 S
part U pins: 21 S
part V pins: 22 S
part W pins: 23 S
part X pins: 24 S
part Y pins: 25 S
part Z pins: 26 S

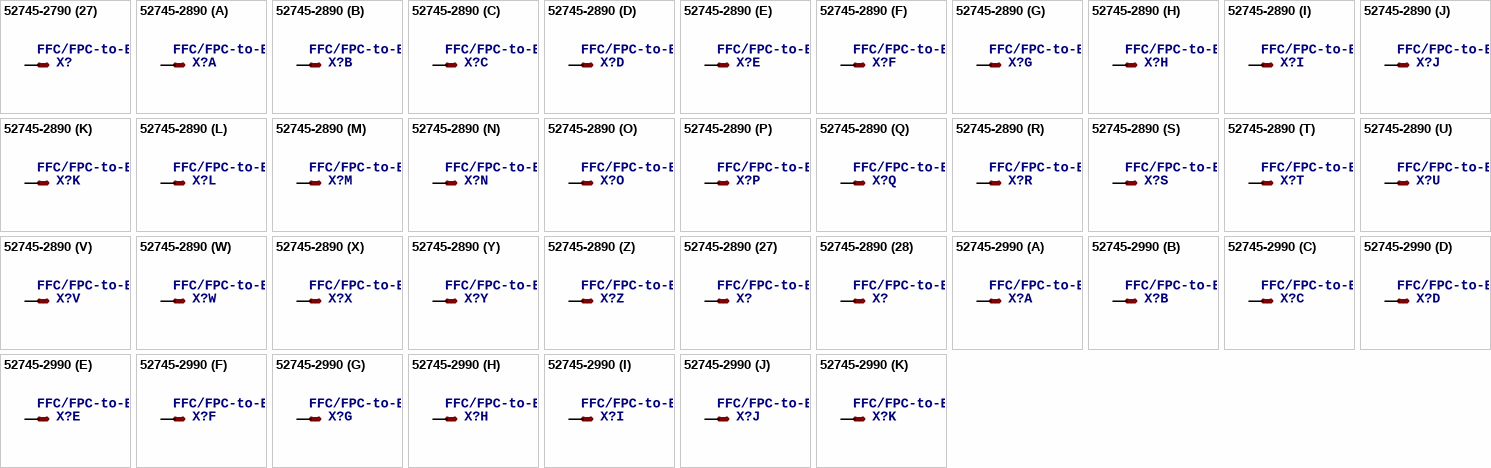
[diagram p44: symbols 52745-2790 to 52745-2990]

## 52745-2790
designator X?, comment FFC/FPC-to-Board  0.50mm (.020") SMT Top Contact   Right Angle, ZIF, Style Receptacle 52745 / 52435 Source: http://www.molex.com/product/ffc/52745.html
OC_FARNELL: unknown; OC_NEWARK: unknown
footprint 52745-2790
part A pins: 1 S
part B pins: 2 S
part C pins: 3 S
part D pins: 4 S
part E pins: 5 S
part F pins: 6 S
part G pins: 7 S
part H pins: 8 S
part I pins: 9 S
part J pins: 10 S
part K pins: 11 S
part L pins: 12 S
part M pins: 13 S
part N pins: 14 S
part O pins: 15 S
part P pins: 16 S
part Q pins: 17 S
part R pins: 18 S
part S pins: 19 S
part T pins: 20 S
part U pins: 21 S
part V pins: 22 S
part W pins: 23 S
part X pins: 24 S
part Y pins: 25 S
part Z pins: 26 S
part 27 pins: 27 S

## 52745-2890
designator X?, comment FFC/FPC-to-Board  0.50mm (.020") SMT Top Contact   Right Angle, ZIF, Style Receptacle 52745 / 52435 Source: http://www.molex.com/product/ffc/52745.html
OC_FARNELL: unknown; OC_NEWARK: unknown
footprint 52745-2890
part A pins: 1 S
part B pins: 2 S
part C pins: 3 S
part D pins: 4 S
part E pins: 5 S
part F pins: 6 S
part G pins: 7 S
part H pins: 8 S
part I pins: 9 S
part J pins: 10 S
part K pins: 11 S
part L pins: 12 S
part M pins: 13 S
part N pins: 14 S
part O pins: 15 S
part P pins: 16 S
part Q pins: 17 S
part R pins: 18 S
part S pins: 19 S
part T pins: 20 S
part U pins: 21 S
part V pins: 22 S
part W pins: 23 S
part X pins: 24 S
part Y pins: 25 S
part Z pins: 26 S
part 27 pins: 27 S
part 28 pins: 28 S

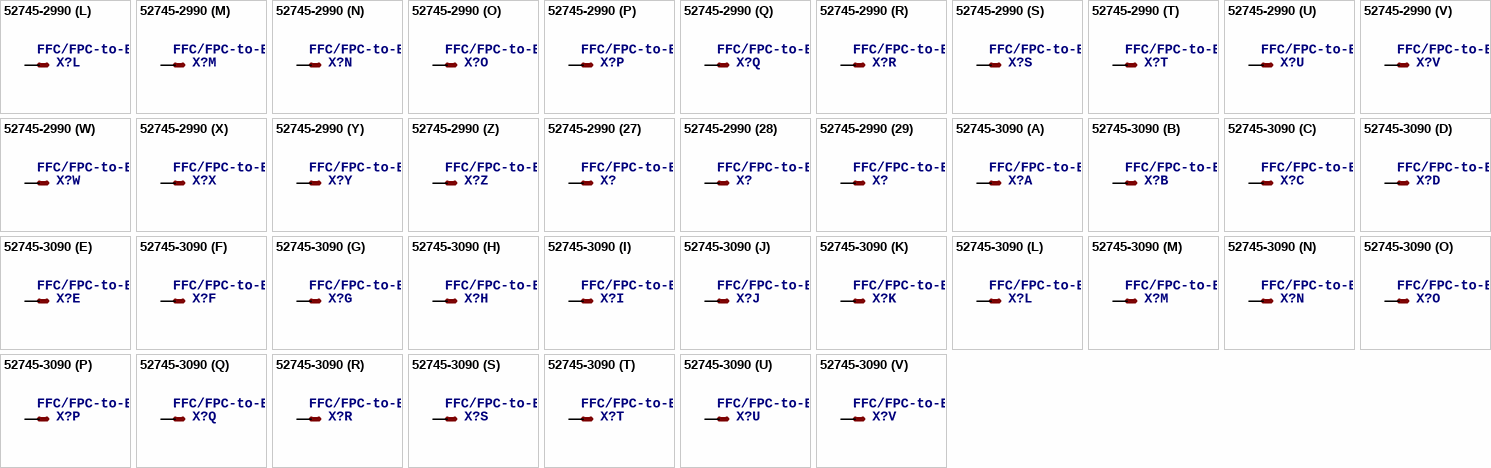
[diagram p45: symbols 52745-2990 to 52745-3090]

## 52745-2990
designator X?, comment FFC/FPC-to-Board  0.50mm (.020") SMT Top Contact   Right Angle, ZIF, Style Receptacle 52745 / 52435 Source: http://www.molex.com/product/ffc/52745.html
OC_FARNELL: unknown; OC_NEWARK: unknown
footprint 52745-2990
part A pins: 1 S
part B pins: 2 S
part C pins: 3 S
part D pins: 4 S
part E pins: 5 S
part F pins: 6 S
part G pins: 7 S
part H pins: 8 S
part I pins: 9 S
part J pins: 10 S
part K pins: 11 S
part L pins: 12 S
part M pins: 13 S
part N pins: 14 S
part O pins: 15 S
part P pins: 16 S
part Q pins: 17 S
part R pins: 18 S
part S pins: 19 S
part T pins: 20 S
part U pins: 21 S
part V pins: 22 S
part W pins: 23 S
part X pins: 24 S
part Y pins: 25 S
part Z pins: 26 S
part 27 pins: 27 S
part 28 pins: 28 S
part 29 pins: 29 S